# Altium footprint library MERES.PcbLib: 90 footprints (part 3 of 6)
Each footprint in its own frame and in the unit in brackets; x right, y up, seen from the top. Pads: shape width x height; smd on the part's side, far side on the other; paste and mask are expansions set on the pad; w line width, h text height; cw(c..) or ccw(c..) is an arc to the next point about the centre after c.
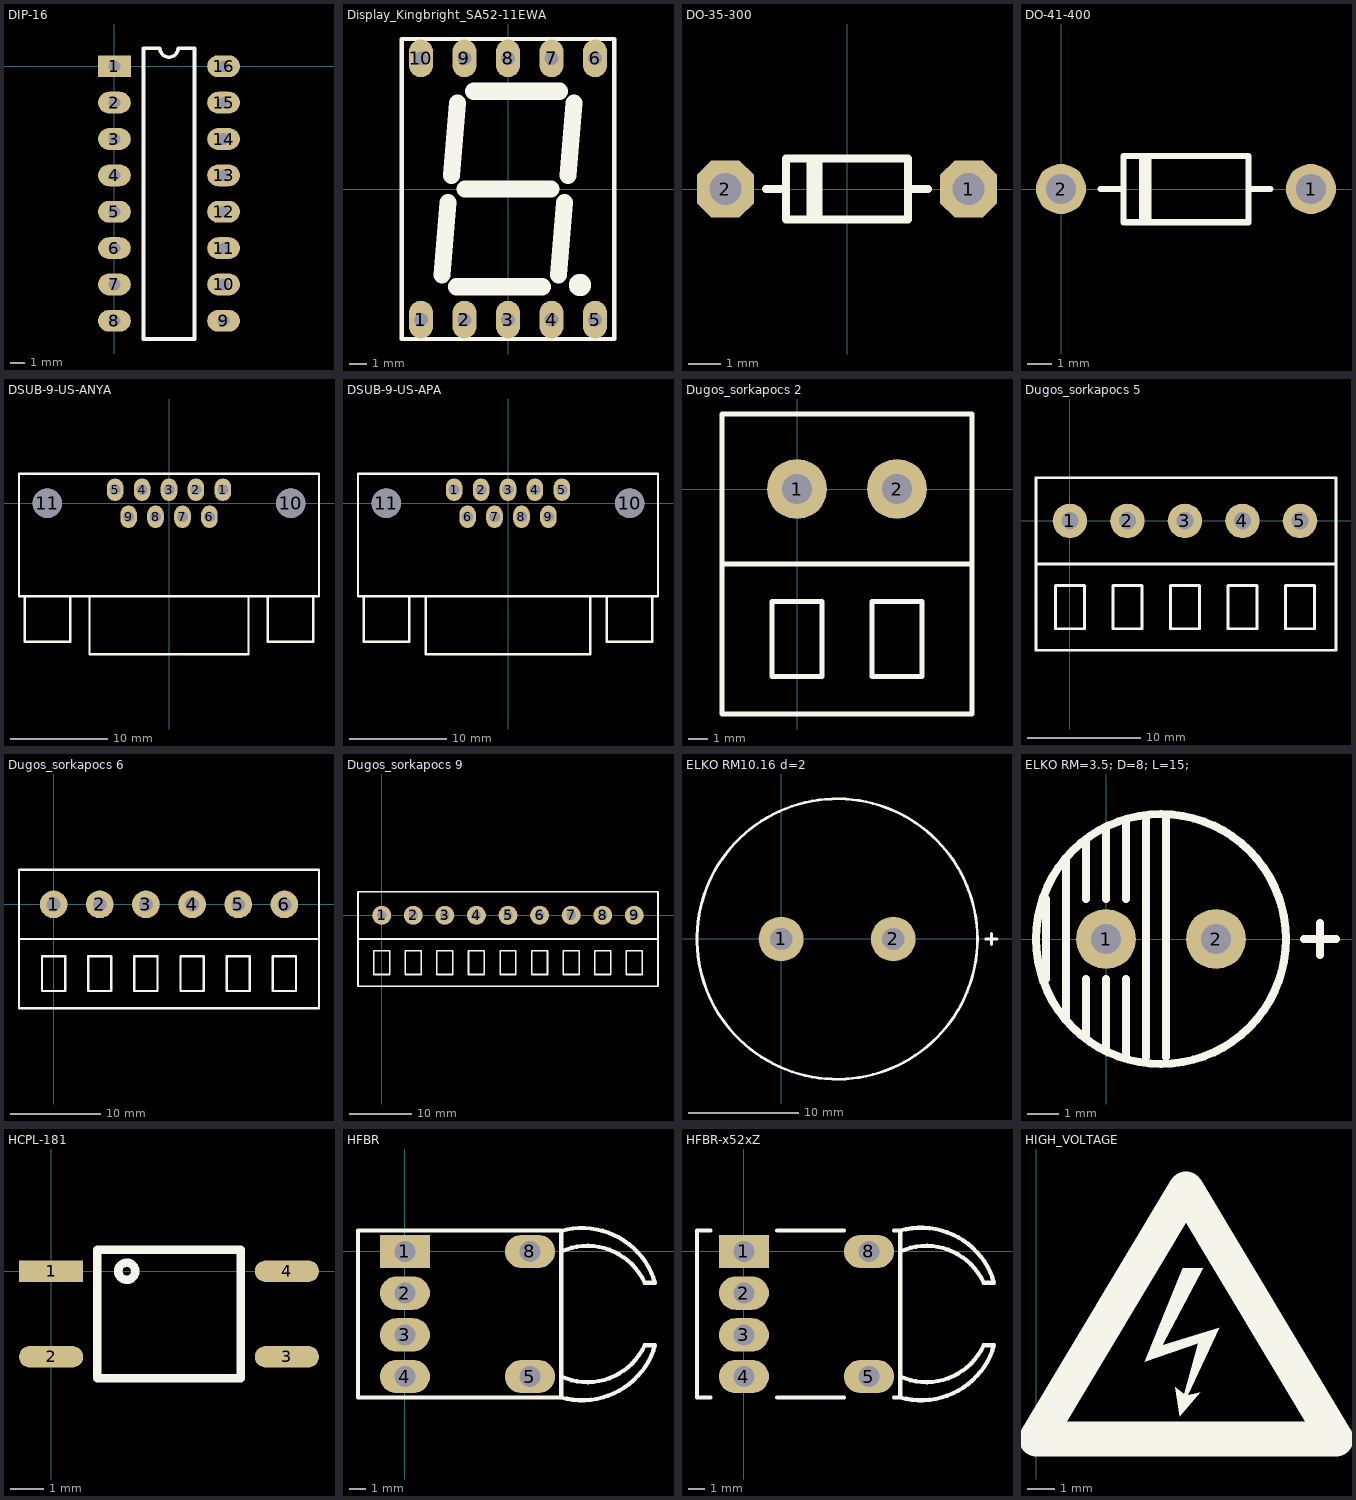
[diagram p2: the footprints below, top view; thin cyan lines are the x and y axes]

## DIP-16 [mil]
pads (16):
  rect 90x60 hole 32: 1(0,0)
  oval 90x60 hole 32: 2(0,-100) 3(0,-200) 4(0,-300) 5(0,-400) 6(0,-500) 7(0,-600) 8(0,-700) 9(300,-700) 10(300,-600) 11(300,-500) 12(300,-400) 13(300,-300) 14(300,-200) 15(300,-100) 16(300,0)
Top Overlay:
  lines w10: 80,-750 220,-750 220,50 175,50 cw(c150,50) 125,50 80,50 80,-750
3D body: height 200.79, standoff -129.92, extent -4.92,-737.5 304.92,49.9

## Display_Kingbright_SA52-11EWA [mm]
pads (10):
  oval 1.4x2.2 hole 0.8: 1(-5.08,-7.62) 2(-2.54,-7.62) 3(0,-7.62) 4(2.54,-7.62) 5(5.08,-7.62) 6(5.08,7.62) 7(2.54,7.62) 8(0,7.62) 9(-2.54,7.62) 10(-5.08,7.62)
Top Overlay:
  circle w0.7: c4.2,-5.6 r0.3
  lines w0.254: -6.2,-8.75 6.2,-8.75 6.2,8.75 -6.2,8.75 -6.2,-8.75
  lines w1: -3.85,-5 -3.5,-0.8 ; -3.3,0.8 -2.949,5.008 ; -3,-5.7 2,-5.7 ; -2.5,0 2.5,0 ; -2,5.7 3,5.7 ; 2.95,-5.004 3.3,-0.8 ; 3.5,0.8 3.85,5.004

## DO-35-300 [mil]
pads (2):
  oct 70x70 hole 39.37: 1(150,0) 2(-150,0)
Top Overlay:
  lines w10: -100,0 -75,0 ; -45,-37.5 -45,37.5 ; -35,-37.5 -35,37.5 ; 75,0 100,0 ; -75,-37.5 75,-37.5 75,37.5 -75,37.5 -75,-25 -75,-37.5

## DO-41-400 [mil]
pads (2):
  round 80 hole 48: 1(400,0) 2(0,0)
Top Overlay:
  lines w10: 63,0 75,0 ; 130,-53 130,53 ; 140,-53 140,53 ; 300,0 335,0 ; 75,0 100,0 ; 75,0 100,0 ; 100,0 100,53 300,53 300,-53 100,-53 100,0
3D body: height 129.13, standoff -96.26, extent -16.93,-53 416.93,55.27

## DSUB-9-US-ANYA [mm]
pads (11):
  oval 1.7x2.3 hole 1.1: 1(5.54,1.385) 2(2.77,1.385) 3(0,1.385) 4(-2.77,1.385) 5(-5.54,1.385) 6(4.155,-1.385) 7(1.385,-1.385) 8(-1.385,-1.385) 9(-4.155,-1.385)
  round 3 / inner round 3 / far side round 4.5 hole 3: 10(12.495,0) 11(-12.495,0)
Top Overlay:
  lines w0.254: -14.835,-9.53 -14.835,-14.21 -10.155,-14.21 -10.155,-9.53 ; -8.165,-9.53 -8.165,-15.53 8.165,-15.53 8.165,-9.53 ; 10.155,-9.53 10.155,-14.21 14.835,-14.21 14.835,-9.53 ; -15.405,-9.53 15.405,-9.53 15.405,3.048 -15.405,3.048 -15.405,-9.53
3D body: height 12.47, standoff -4.4, extent -15.405,-15.299 15.405,3.001

## DSUB-9-US-APA [mm]
pads (11):
  oval 1.7x2.3 hole 1.1: 1(-5.54,1.385) 2(-2.77,1.385) 3(0,1.385) 4(2.77,1.385) 5(5.54,1.385) 6(-4.155,-1.385) 7(-1.385,-1.385) 8(1.385,-1.385) 9(4.155,-1.385)
  round 3 / inner round 3 / far side round 4.5 hole 3: 10(12.495,0) 11(-12.495,0)
Top Overlay:
  lines w0.254: -14.835,-9.53 -14.835,-14.21 -10.155,-14.21 -10.155,-9.53 ; -8.46,-9.53 -8.46,-15.53 8.46,-15.53 8.46,-9.53 ; 10.155,-9.53 10.155,-14.21 14.835,-14.21 14.835,-9.53 ; -15.405,-9.53 15.405,-9.53 15.405,3.048 -15.405,3.048 -15.405,-9.53
3D body: height 4.4, standoff -12.47, extent -15.443,-15.654 15.367,2.946

## Dugos_sorkapocs 2 [mil]
pads (2):
  round 120 hole 60: 1(0,0) 2(200,0)
Top Overlay:
  lines w10: -150,-150 350,-150 ; -150,-450 -150,-100 -150,150 350,150 350,-100 350,-450 -150,-450 ; -50,-375 -50,-225 50,-225 50,-375 -50,-375 ; 150,-375 150,-225 250,-225 250,-375 150,-375

## Dugos_sorkapocs 5 [mil]
pads (5):
  round 120 hole 60: 1(0,0) 2(200,0) 3(400,0) 4(600,0) 5(800,0)
Top Overlay:
  lines w10: -118,-150 925,-150 ; -118.11,-450 925.2,-450 925.2,-124.8 925.2,150 -118.11,150 -118.11,-131.89 -118.11,-450 ; -50,-375 50,-375 50,-225 -50,-225 -50,-375 ; 150,-375 250,-375 250,-225 150,-225 150,-375 ; 350,-375 450,-375 450,-225 350,-225 350,-375 ; 550,-375 650,-375 650,-225 550,-225 550,-375 ; 750,-375 850,-375 850,-225 750,-225 750,-375

## Dugos_sorkapocs 6 [mil]
pads (6):
  round 120 hole 60: 1(0,0) 2(200,0) 3(400,0) 4(600,0) 5(800,0) 6(1000,0)
Top Overlay:
  lines w10: -150,-150 1150,-150 ; -150,-450 1150,-450 1150,-100 1150,150 -150,150 -150,-100 -150,-450 ; -50,-375 50,-375 50,-225 -50,-225 -50,-375 ; 150,-375 250,-375 250,-225 150,-225 150,-375 ; 350,-375 450,-375 450,-225 350,-225 350,-375 ; 550,-375 650,-375 650,-225 550,-225 550,-375 ; 750,-375 850,-375 850,-225 750,-225 750,-375 ; 950,-375 950,-225 1050,-225 1050,-375 950,-375

## Dugos_sorkapocs 9 [mil]
pads (9):
  round 120 hole 60: 1(0,0) 2(200,0) 3(400,0) 4(600,0) 5(800,0) 6(1000,0) 7(1200,0) 8(1400,0) 9(1600,0)
Top Overlay:
  lines w10: -150,-150 1750,-150 ; 1750,-150 1750,-450 -150,-450 -150,-100 -150,150 1750,150 1750,-150 ; -50,-375 50,-375 50,-225 -50,-225 -50,-375 ; 150,-375 250,-375 250,-225 150,-225 150,-375 ; 350,-375 450,-375 450,-225 350,-225 350,-375 ; 550,-375 650,-375 650,-225 550,-225 550,-375 ; 750,-375 850,-375 850,-225 750,-225 750,-375 ; 950,-375 950,-225 1050,-225 1050,-375 950,-375 ; 1150,-375 1150,-225 1250,-225 1250,-375 1150,-375 ; 1350,-375 1350,-225 1450,-225 1450,-375 1350,-375 ; 1550,-375 1550,-225 1650,-225 1650,-375 1550,-375

## ELKO RM10.16 d=2 [mil] "Multicomp PSMN"
height 1574.8
pads (2):
  round 160 hole 80: 1(0,0) 2(400,0)
Top Overlay:
  circle w10: c200,0 r500
  lines w10: 730,0 770,0 ; 750,-20 750,20
3D body: height 1181.1, standoff -137.8, extent -300,-500 700,500

## ELKO RM=3.5; D=8; L=15; [mil] "RM=3.5; D=8; L=15;"
pads (2):
  round 75 hole 38: 1(0,0) 2(137.5,0)
Top Overlay:
  circle w10: c68.75,0 r156.25
  lines w10: -75,-50 -75,50 ; -50,-100 -50,100 ; -25,-125 -25,-50 ; -25,50 -25,125 ; 0,-140 0,-50 ; 0,50 0,140 ; 25,-147.79 25,-50 ; 25,50 25,150 ; 50,-147.79 50,150 ; 75,-147.79 75,150 ; 247.5,0 287.5,0 ; 267.5,-20 267.5,20
3D body: height 590.55, standoff -137.8, extent -88.73,-157.48 226.23,157.48

## HCPL-181 [mm]
pads (4):
  rect 1.905x0.635 smd: 1(0,0)
  oval 1.905x0.635 smd: 2(0,-2.54) 3(7,-2.54) 4(7,0)
Top Overlay:
  circle w0.254: c2.246,0 r0.254
  lines w0.254: 1.375,-3.175 5.625,-3.175 5.625,0.635 1.375,0.635 1.375,-3.175
3D body: height 2, standoff -0.1, extent 0,-3.1 7,0.5

## HFBR [mil]
pads (6):
  rect 120x80 hole 50: 1(0,0)
  oval 120x80 hole 50: 2(0,-100) 3(0,-200) 4(0,-300) 5(300,-300) 8(300,0)
Top Overlay:
  lines w10: 375,-300 ccw(c437.5,-162.5) 575,-225 600,-225 cw(c425,-175) 375,-350 ; 375,0 cw(c437.5,-137.5) 575,-75 600,-75 ; 375,49.21 cw(c425,-125.79) 600,-75.79 ; 375,-350 -112.5,-350 -112.5,50 375,50 375,-350
3D body: height 275.59, standoff 25.2, extent -112.48,-349.98 374.98,49.98

## HFBR-x52xZ [mil]
pads (6):
  rect 120x80 hole 50: 1(0,0)
  oval 120x80 hole 50: 2(0,-100) 3(0,-200) 4(0,-300) 5(300,-300) 8(300,0)
Top Overlay:
  lines w10: -80,-350 -112.5,-350 -112.5,50 -80,50 ; 80,-350 240,-350 ; 80,50 240,50 ; 360,-350 375,-350 ; 360,50 375,50 ; 375,-300 ccw(c437.5,-162.5) 575,-225 600,-225 cw(c425,-175) 375,-350 ; 375,0 cw(c437.5,-137.5) 575,-75 600,-75 ccw(c425,-125) 375,50 ; 375,-350 375,50
3D body: height 295.28, standoff -146.46, extent -102.36,-348.82 637.79,131.1

## HIGH_VOLTAGE [mil]
Top Overlay:
  region: 210.1,244.45 239.4,245.2 180.9,134.65 262.2,159.75 217.2,63.05 235.25,67.5 206,33.05 199.15,74.05 212.2,64.15 231.95,137.3 155.75,111.05
  lines w50: 0,0 429.33,0 214.66,358.25 0,0